# EAGLE library part 62000611722 (library Wuerth_Elektronik_eiCan_Wire_to_Board_Connectors v1.2)
WR-WTB 2.00mm Male Horizontal Shrouded Header, 6 Pins
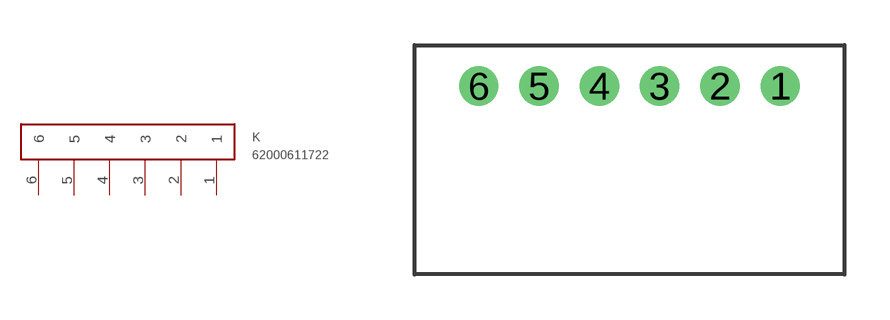
[diagram p30: symbol with the pads of 62000611722; footprint 62000611722]

Designator prefix K

## 62000611722  [62000611722]
1  1
2  2
3  3
4  4
5  5
6  6

## Footprint 62000611722 (pad centres in mm)
WR-WTB 2.00mm Male Horizontal Shrouded Header, 6 Pins
drill 0.8 round: 1 1,0; 2 -1,0; 3 -3,0; 4 -5,0; 5 -7,0; 6 -9,0